# Altium footprint library USB Mini-B.PcbLib: 1 footprints
Each footprint in its own frame and in the unit in brackets; x right, y up, seen from the top. Pads: shape width x height; smd on the part's side, far side on the other; paste and mask are expansions set on the pad; w line width, h text height; cw(c..) or ccw(c..) is an arc to the next point about the centre after c.
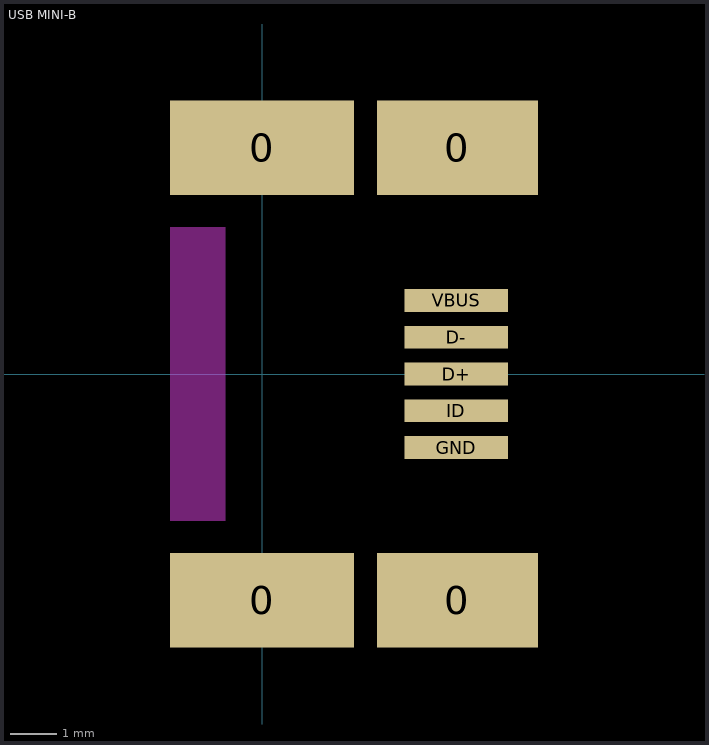
[diagram p0: the footprint, top view; thin cyan lines are the x and y axes]

## USB MINI-B [mm] "Molex USB Mini-B Receptacle 548190572"
height 3.55
pads (9):
  rect 4x2.05 smd: 0(0,-4.925) 0(0,4.925)
  rect 3.5x2.05 smd: 0(4.25,-4.925) 0(4.25,4.925)
  rect 2.25x0.5 smd: D+(4.225,0) D-(4.225,0.8) GND(4.225,-1.6) ID(4.225,-0.8) VBUS(4.225,1.6)
Keep-Out Layer:
  rectangle: -2,-3.2 -0.8,3.2
3D body: height 4.05, standoff 0, extent -3.975,-4.95 5.025,4.95